# Altium schematic symbol library Schlib1.SchLib: 4 symbols
Pins are listed as number, name and electrical type; pins without a type are passive.

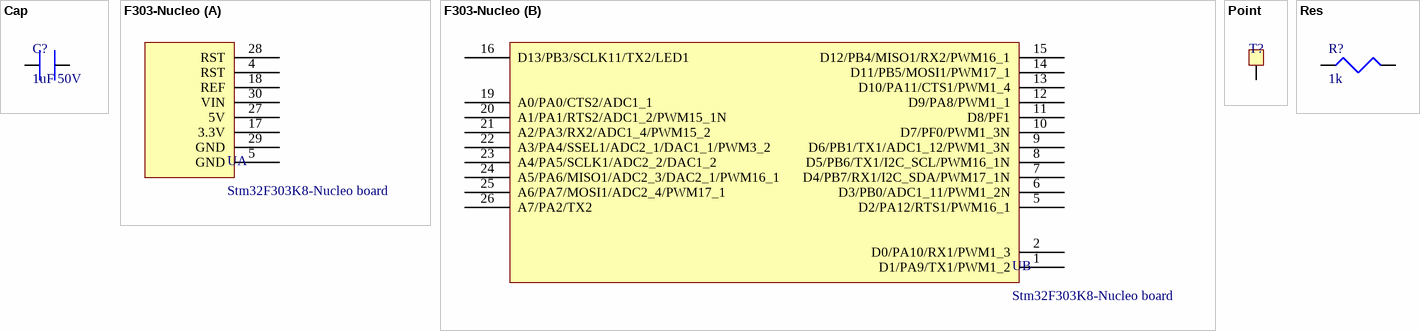
[diagram p0: symbols Cap to Res]

## Cap
designator C?, comment 1uF 50V
footprint 0603_C
footprint 0805_C
footprint 1206_C
footprint 1210_C
footprint 2220_C
footprint 2512_C
pins: 1, 2

## F303-Nucleo
designator U, comment Stm32F303K8-Nucleo board
footprint F303-Nucleo
part A pins: 4 RST, 5 GND, 17 3.3V, 18 REF, 27 5V, 28 RST, 29 GND, 30 VIN
part B pins: 1 D1/PA9/TX1/PWM1_2, 2 D0/PA10/RX1/PWM1_3, 5 D2/PA12/RTS1/PWM16_1, 6 D3/PB0/ADC1_11/PWM1_2N, 7 D4/PB7/RX1/I2C_SDA/PWM17_1N, 8 D5/PB6/TX1/I2C_SCL/PWM16_1N, 9 D6/PB1/TX1/ADC1_12/PWM1_3N, 10 D7/PF0/PWM1_3N, 11 D8/PF1, 12 D9/PA8/PWM1_1, 13 D10/PA11/CTS1/PWM1_4, 14 D11/PB5/MOSI1/PWM17_1, 15 D12/PB4/MISO1/RX2/PWM16_1, 16 D13/PB3/SCLK11/TX2/LED1, 19 A0/PA0/CTS2/ADC1_1, 20 A1/PA1/RTS2/ADC1_2/PWM15_1N, 21 A2/PA3/RX2/ADC1_4/PWM15_2, 22 A3/PA4/SSEL1/ADC2_1/DAC1_1/PWM3_2, 23 A4/PA5/SCLK1/ADC2_2/DAC1_2, 24 A5/PA6/MISO1/ADC2_3/DAC2_1/PWM16_1, 25 A6/PA7/MOSI1/ADC2_4/PWM17_1, 26 A7/PA2/TX2

## Point
designator T?  (value not drawn)
footprint Out_Point
footprint Test_Point
pins: 1

## Res
designator R?, comment 1k
footprint 0603_R
footprint 0805_R
footprint 1206_R
footprint 1210_R
footprint 2220_R
footprint 2512_R
pins: 1, 2